# Altium schematic symbol library Roket_Library.SchLib: 61 symbols
Pins are listed as number, name and electrical type; pins without a type are passive.

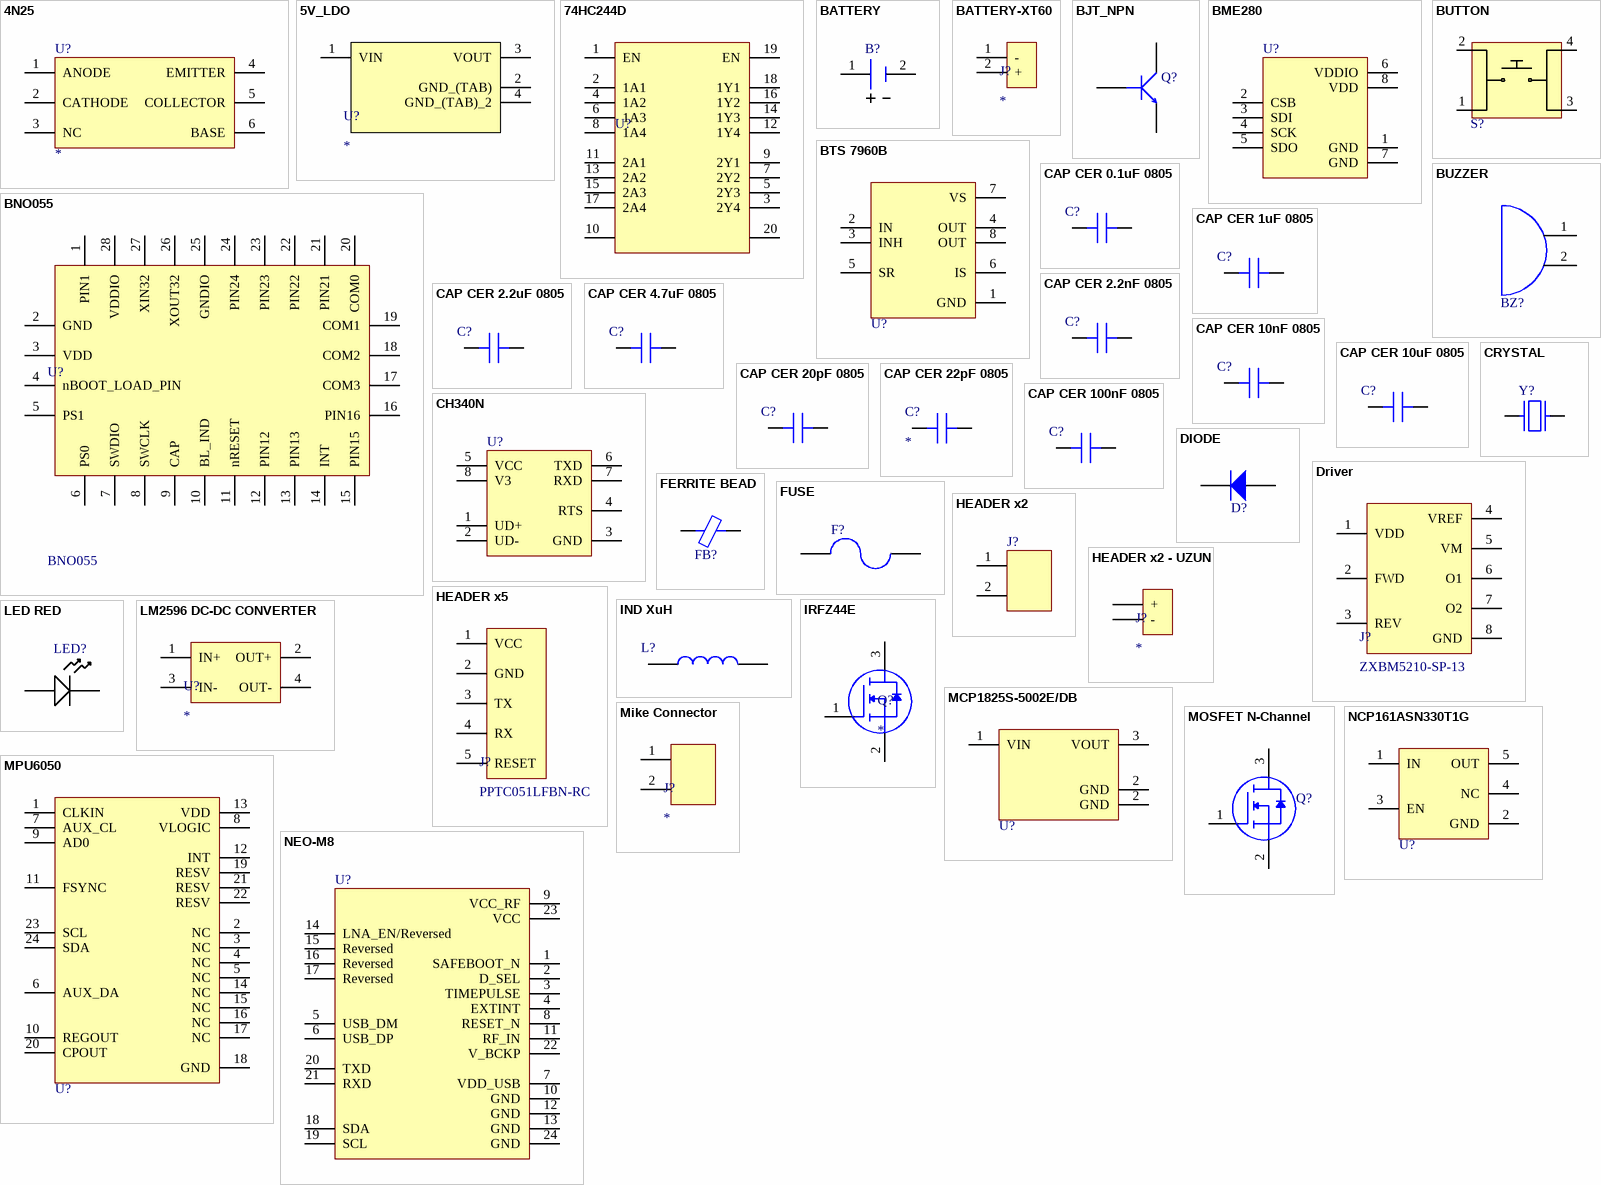
[diagram p0: symbols 4N25 to NEO-M8]

## 4N25
designator U?
OPTOISO 2.5KV TRANS W/BASE 6DIP; Manufacturer: Vishay Lite-On; Manufacturer Part Number: 4N25; Max Power Dissipation: 250mW; Number of Elements: 1; Rise Time: 2us; Power Dissipation: 150mW; Collector Emitter Voltage (VCEO): 30V; Forward Voltage: 1.2V; Input Type: DC; Collector Emitter Saturation Voltage: 500mV; Max Input Current: 80mA; Isolation Voltage: 5kV; Forward Current: 60mA; Reverse Breakdown Voltage: 5V; Input Current: 50mA; Max Collector Current: 100mA; Current Transfer Ratio: 50%; Supplier 1: Digi-Key; RoHS: Yes; Stock 1: 8920; Pricing 1: 1=0,46000, 10=0,28000, 100=0,16100, 1000=0,12600, 2000=0,11550, 5000=0,10500, 10000=0,09800, 25000=0,09450 (USD); Mount: Through Hole; Case/Package: DIP; Number of Pins: 6; Min Operating Temperature: -55°C; Max Operating Temperature: 100°C; Packaging: Rail/Tube; Package Quantity: 65; Series: -; Number of Channels: 1; Max Output Voltage: 30V; Fall Time: 2us; Number of Circuits: 1; Collector-emitter Voltage-Max: 500mV; Output Voltage: 30V; Isolation Voltage-Max: 5kV; Collector Emitter Breakdown Voltage: 30V; Output Current per Channel: 100mA; Radiation Hardening: No; Lead Free: Lead Free; Supplier Part Number 1: 160-1300-5-ND
footprint 4N25
pins: 1 ANODE, 2 CATHODE, 3 NC, 4 EMITTER, 5 COLLECTOR, 6 BASE

## 5V_LDO
designator U?
footprint 5V_LDO
pins: 1 VIN, 2 GND_(TAB), 3 VOUT, 4 GND_(TAB)_2

## 74HC244D
designator U?  (value not drawn)
IC BUFF/DVR TRI-ST DUAL 20SOIC; Manufacturer: Texas Instruments; Manufacturer Part Number: SN74HC244DWR; Polarity: Non-Inverting; Output Type: 3-STATE; Min Supply Voltage: 2V; Max Supply Voltage: 6V; Logic Function: Buffer,Inverting; Propagation Delay: 28ns; Number of Outputs: 8; Number of Elements: 2; Operating Supply Voltage: 5V; Low Level Output Current: 7.8mA; High Level Output Current: -7.8mA; Quiescent Current: 8uA; Turn-On Delay Time: 250ns; Number of Bits per Element: 4; Supplier 1: Digi-Key; RoHS: Yes; Category: Buffers, Drivers and Transceivers; Stock 1: 24373; Pricing 1: 1=0,60000, 10=0,52500, 25=0,49320, 100=0,40260, 250=0,37400, 500=0,31830, 1000=0,25464 (USD); Mount: Surface Mount; Case/Package: SOIC; Number of Pins: 20; Contact Plating: Gold; Min Operating Temperature: -40°C; Max Operating Temperature: 85°C; Packaging: Tape and Reel; Package Quantity: 2000; Number of Input Lines: 8; Number of Output Lines: 8; Number of Channels: 8; Number of Inputs: 8; Series: 74HC; Number of Bits: 8; Technology: CMOS; Number of Circuits: 8; Length: 12.8mm; Width: 7.52mm; Height: 2.35mm; Radiation Hardening: No; RoHS Compliant: Yes; Lead Free: Lead Free; Reach SVHC Compliant: Yes; ComponentLink1URL: https://datasheet.ciiva.com/34301/1004863-34301858.pdf?src-supplier=Jameco; ComponentLink1Description: https://datasheet.ciiva.com/34301/1004863-34301858.pdf?src-supplier=Jameco; ComponentLink2URL: https://datasheet.ciiva.com/15094/getdatasheetpartid-93776-15094669.pdf?src-supplier=Verical; ComponentLink2Description: https://datasheet.ciiva.com/15094/getdatasheetpartid-93776-15094669.pdf?src-supplier=Verical; ComponentLink3URL: https://datasheet.ciiva.com/41456/001016706-da-01-en-ic-b-dvr-sn74hc-sn74hc244dwr-soic-20-tid-41456856.pdf?src-supplier=Conrad; ComponentLink3Description: https://datasheet.ciiva.com/41456/001016706-da-01-en-ic-b-dvr-sn74hc-sn74hc244dwr-soic-20-tid-41456856.pdf?src-supplier=Conrad; ComponentLink4URL: https://datasheet.ciiva.com/1833/sn74hc244-1833833.pdf?src-supplier=Digi-Key; ComponentLink4Description: https://datasheet.ciiva.com/1833/sn74hc244-1833833.pdf?src-supplier=Digi-Key; ComponentLink5URL: https://datasheet.ciiva.com/1833/sn74hc244-1833832.pdf?src-supplier=Digi-Key; ComponentLink5Description: https://datasheet.ciiva.com/1833/sn74hc244-1833832.pdf?src-supplier=Digi-Key; ComponentLink6URL: https://datasheet.ciiva.com/1833/sn74hc244-1833834.pdf?src-supplier=Digi-Key; ComponentLink6Description: https://datasheet.ciiva.com/1833/sn74hc244-1833834.pdf?src-supplier=Digi-Key; ComponentLink7URL: https://datasheet.ciiva.com/7748/sn74hc244-7748043.pdf?src-supplier=Element14; ComponentLink7Description: https://datasheet.ciiva.com/7748/sn74hc244-7748043.pdf?src-supplier=Element14; ComponentLink8URL: https://datasheet.ciiva.com/14301/sn54hc244-14301006.pdf?src-supplier=Avnet; ComponentLink8Description: https://datasheet.ciiva.com/14301/sn54hc244-14301006.pdf?src-supplier=Avnet; Supplier Part Number 1: 296-1196-6-ND
footprint SOIC20
pins: 1 EN, 2 1A1, 3 2Y4, 4 1A2, 5 2Y3, 6 1A3, 7 2Y2, 8 1A4, 9 2Y1, 10, 11 2A1, 12 1Y4, 13 2A2, 14 1Y3, 15 2A3, 16 1Y2, 17 2A4, 18 1Y1, 19 EN, 20

## BATTERY
designator B?, comment MS920SE-FL27E  (value not drawn)
Lithium Battery Coin 3V 11mAh Rechargeable Tray; Manufacturer: Epson; Capacity: 0.011ah; Number of Cells: 1; Supplier 1: Digi-Key; Manufacturer Part Number: MS920SE-FL27E; RoHS: No; Stock 1: 17863; Pricing 1: 1=2,520000, 10=2,091000, 50=1,844000, 100=1,741000, 300=1,617400, 500=1,535000, 1000=1,452580, 2500=1,380470 (USD); Mount: Screw; Min Operating Temperature: -20°C; Max Operating Temperature: 60°C; Chemistry/Technology: Lithium; Voltage: 3V; ComponentLink1URL: http://speed.sii.co.jp/data/file_PRODUCT_MASTER_50112_TITLE_IMAGESP.pdf?src-supplier=Avnet; ComponentLink1Description: http://speed.sii.co.jp/data/file_PRODUCT_MASTER_50112_TITLE_IMAGESP.pdf?src-supplier=Avnet; Supplier Part Number 1: 728-1058-ND
footprint MS920SE_Battery
pins: 1, 2

## BATTERY-XT60
designator J?
footprint BATTERY-XT60
pins: 1 -, 2 +

## BJT_NPN
designator Q?, comment MMBT3904-7-F  (value not drawn)
NPN Ic=200mA Vceo=40V hfe=100~300 fT=310MHz P=300mW SOT-23; Manufacturer: Diodes Zetex; Max Power Dissipation: 300mW; Collector Emitter Voltage (VCEO): 40V; Max Collector Current: 200mA; Collector Base Voltage (VCBO): 60V; Power Dissipation: 350mW; Frequency: 300MHz; hFE Min: 100; Number of Elements: 1; Emitter Base Voltage (VEBO): 6V; Collector Emitter Saturation Voltage: 300mV; Element Configuration: Single; Supplier 1: Digi-Key; Manufacturer Part Number: MMBT3904-7-F; RoHS: Yes; Category: BJTs; Stock 1: 7729144; Pricing 1: 1=0,13000, 10=0,11700, 100=0,06370, 500=0,03918, 1000=0,02671 (USD); Mount: Surface Mount; Case/Package: SOT-23; Number of Pins: 3; Weight: 0.000282oz; Contact Plating: Tin,Matte; Min Operating Temperature: -55°C; Max Operating Temperature: 150°C; Polarity: NPN; Packaging: Tape and Reel; Package Quantity: 3000; Transition Frequency: 300MHz; Collector Emitter Breakdown Voltage: 40V; Max Breakdown Voltage: 40V; Continuous Collector Current: 200mA; Max Frequency: 300MHz; Gain Bandwidth Product: 300MHz; Voltage Rating (DC): 40V; Series: Automotive, AEC-Q101; Collector-emitter Voltage-Max: 300mV; Length: 3.05mm; Width: 1.4mm; Height: 1mm; Radiation Hardening: No; Reach SVHC Compliant: Yes; Lead Free: Lead Free; RoHS Compliant: Yes; ComponentLink1URL: https://datasheet.ciiva.com/11201/ds30036-11201778.pdf?src-supplier=Avnet; ComponentLink1Description: https://datasheet.ciiva.com/11201/ds30036-11201778.pdf?src-supplier=Avnet; ComponentLink2URL: https://datasheet.ciiva.com/15138/getdatasheetpartid-53265-15138780.pdf?src-supplier=Verical; ComponentLink2Description: https://datasheet.ciiva.com/15138/getdatasheetpartid-53265-15138780.pdf?src-supplier=Verical; ComponentLink3URL: https://datasheet.ciiva.com/22711/1915516-22711750.pdf?src-supplier=Element14; ComponentLink3Description: https://datasheet.ciiva.com/22711/1915516-22711750.pdf?src-supplier=Element14; ComponentLink4URL: https://datasheet.ciiva.com/11198/ds30036-11198999.pdf?src-supplier=Avnet; ComponentLink4Description: https://datasheet.ciiva.com/11198/ds30036-11198999.pdf?src-supplier=Avnet; ComponentLink5URL: https://datasheet.ciiva.com/6361/ds30036-6361256.pdf?src-supplier=Digi-Key; ComponentLink5Description: https://datasheet.ciiva.com/6361/ds30036-6361256.pdf?src-supplier=Digi-Key; ComponentLink6URL: https://datasheet.ciiva.com/6361/ds30036-6361254.pdf?src-supplier=Digi-Key; ComponentLink6Description: https://datasheet.ciiva.com/6361/ds30036-6361254.pdf?src-supplier=Digi-Key; Supplier Part Number 1: MMBT3904-FDICT-ND
footprint SOT_23F
pins: 1 B, 2 E, 3 C

## BME280
designator U?  (value not drawn)
Pressure, Temperature and Humidity Sensor Digital Output 1.8V 8-Pin LGA T/R; Manufacturer: Bosch Tools; Supplier 1: Digi-Key; Manufacturer Part Number: BME280; RoHS: No; Category: Pressure Sensors; Stock 1: 180730; Pricing 1: 1=7,64000, 5=6,74200, 10=5,95500, 25=4,83160, 50=4,26960, 100=4,15730, 500=3,48316, 1000=3,25844 (USD); Supplier Part Number 1: 828-1063-1-ND
footprint BME280
pins: 1 GND, 2 CSB, 3 SDI, 4 SCK, 5 SDO, 6 VDDIO, 7 GND, 8 VDD

## BNO055
designator U?
BNO055 Series 1.7 to 3.6 V Intelligent 9-Axis Absolute Orientation Sensor-LGA-28; Manufacturer: Bosch; Sensor Type: Accelerometer,Gyroscope,Magnetometer,3 Axis; Output Type: I2C; Supplier 1: Future Electronics; Manufacturer Part Number: BNO055; RoHS: No; Category: Inertial Measurement Units (IMUs); Pricing 1: 4000=7,70000 (USD); Mount: Surface Mount; Case/Package: LGA; Min Operating Temperature: -40°C; Max Operating Temperature: 85°C; Packaging: Tape and Reel; Lead Free: Lead Free; ComponentLink1URL: https://ae-bst.resource.bosch.com/media/_tech/media/application_notes/BST-BNO055-HS000.pdf ?src-supplier=Digi-Key; ComponentLink1Description: https://ae-bst.resource.bosch.com/media/_tech/media/application_notes/BST-BNO055-HS000.pdf ?src-supplier=Digi-Key; Supplier Part Number 1: 8159159
footprint BNO055
pins: 1 PIN1, 2 GND, 3 VDD, 4 nBOOT_LOAD_PIN, 5 PS1, 6 PS0, 7 SWDIO, 8 SWCLK, 9 CAP, 10 BL_IND, 11 nRESET, 12 PIN12, 13 PIN13, 14 INT, 15 PIN15, 16 PIN16, 17 COM3, 18 COM2, 19 COM1, 20 COM0, 21 PIN21, 22 PIN22, 23 PIN23, 24 PIN24, 25 GNDIO, 26 XOUT32, 27 XIN32, 28 VDDIO

## BTS 7960B
designator U?  (value not drawn)
CY29FCT520T 8-BIT Multi-level Pi; Manufacturer: Texas Instruments; Manufacturer Part Number: CY29FCT520BTSOC; Min Supply Voltage: 4.75V; Max Supply Voltage: 5.25V; Number of Bits: 8; Operating Supply Voltage: 5V; Propagation Delay: 7.5ns; Number of Elements: 1; Low Level Output Current: 64mA; High Level Output Current: -32mA; Clock Edge Trigger Type: Positive Edge; Polarity: Non-Inverting; Max Input Current: 5uA; Output Type: 3-STATE; Supplier 1: Digi-Key; RoHS: Yes; Category: Shift Registers; Pricing 1: 150=3,81980 (USD); Mount: Surface Mount; Case/Package: SOIC; Number of Pins: 24; Weight: 0.022025oz; Contact Plating: Gold; Min Operating Temperature: -40°C; Max Operating Temperature: 85°C; Package Quantity: 25; Packaging: Rail/Tube; Number of Channels: 8; Series: 29FCT; Termination: SMD/SMT; Technology: CMOS; Number of Outputs: 8; Number of Circuits: 1; Turn-On Delay Time: 7.5ns; Number of Inputs: 8; Number of Input Lines: 8; Number of Output Lines: 8; Number of Bits per Element: 8; Radiation Hardening: No; Lead Free: Lead Free; Reach SVHC Compliant: Yes; RoHS Compliant: Yes; ComponentLink1URL: https://datasheet.ciiva.com/15086/getdatasheetpartid-393432-15086926.pdf?src-supplier=Verical; ComponentLink1Description: https://datasheet.ciiva.com/15086/getdatasheetpartid-393432-15086926.pdf?src-supplier=Verical; ComponentLink2URL: https://datasheet.ciiva.com/1509/1847425-1509393.pdf?src-supplier=Element14; ComponentLink2Description: https://datasheet.ciiva.com/1509/1847425-1509393.pdf?src-supplier=Element14; ComponentLink3URL: https://datasheet.ciiva.com/14274/cy29fct520t-14274654.pdf?src-supplier=Avnet; ComponentLink3Description: https://datasheet.ciiva.com/14274/cy29fct520t-14274654.pdf?src-supplier=Avnet; ComponentLink4URL: https://datasheet.ciiva.com/6619/cy29fct520t-6619311.pdf?src-supplier=Digi-Key; ComponentLink4Description: https://datasheet.ciiva.com/6619/cy29fct520t-6619311.pdf?src-supplier=Digi-Key; Supplier Part Number 1: 296-33177-5-ND
footprint P-TO-263-7
pins: 1 GND, 2 IN, 3 INH, 4 OUT, 5 SR, 6 IS, 7 VS, 8 OUT

## BUTTON
designator S?, comment PTS815 SJG 250 SMTR LFS  (value not drawn)
Switch Tactile N.O. SPST Button J-Bend 0.05A 12VDC 3.92N SMD T/R; Manufacturer: ITT C&K; Supplier 1: Digi-Key; Manufacturer Part Number: PTS815SJG250SMTRLFS; RoHS: Yes; Category: Tactile Switches; Stock 1: 47215; Pricing 1: 1=0,22000, 10=0,21400, 25=0,20280, 100=0,18360, 250=0,16736, 500=0,15558, 1000=0,13271 (USD); Supplier Part Number 1: CKN12217-1-ND
footprint BUTTON
pins: 1, 2, 3, 4

## BUZZER
designator BZ?, comment CMI-9605IC-0580T  (value not drawn)
Audio Buzzer Magnetic 3VDC 7VDC 30mA 5VDC 85dB 2600Hz to 2800Hz Through Hole Pin Box; Manufacturer: CUI Devices; Supplier 1: Digi-Key; Manufacturer Part Number: CMI-9605IC-0580T; RoHS: No; Category: Audio Products; Stock 1: 6842; Pricing 1: 1=1,43000, 10=1,19000, 25=1,10160, 50=1,03700, 100=0,97450, 500=0,83848, 1000=0,78382, 5000=0,76810 (USD); Supplier Part Number 1: 2223-CMI-9605IC-0580T-ND
footprint BUZZER
pins: 1, 2

## CAP CER 0.1uF 0805
designator C?  (value not drawn)
footprint CAP_0805
pins: 1, 2

## CAP CER 1uF 0805
designator C?  (value not drawn)
footprint CAP_0805
pins: 1, 2

## CAP CER 2.2nF 0805
designator C?  (value not drawn)
footprint CAP_0805
pins: 1, 2

## CAP CER 2.2uF 0805
designator C?  (value not drawn)
footprint CAP_0805
pins: 1, 2

## CAP CER 4.7uF 0805
designator C?  (value not drawn)
footprint CAP_0805
pins: 1, 2

## CAP CER 10nF 0805
designator C?  (value not drawn)
footprint CAP_0805
pins: 1, 2

## CAP CER 10uF 0805
designator C?  (value not drawn)
footprint CAP_0805
pins: 1, 2

## CAP CER 20pF 0805
designator C?  (value not drawn)
footprint CAP_0805
pins: 1, 2

## CAP CER 22pF 0805
designator C?
footprint CAP_0805
pins: 1, 2

## CAP CER 100nF 0805
designator C?  (value not drawn)
footprint CAP_0805
pins: 1, 2

## CH340N
designator U?  (value not drawn)
USB TO UART TTL CONVERTER - SOP 8 PACKAGE
footprint SOP-8
pins: 1 UD+, 2 UD-, 3 GND, 4 RTS, 5 VCC, 6 TXD, 7 RXD, 8 V3

## CRYSTAL
designator Y?, comment CRYSTAL 32.7680KHZ 12.5PF SMD  (value not drawn)
Crystal 0.032768MHz ±20ppm (Tol) 12.5pF Flexural 90000Ohm 2-Pin CSMD T/R; Manufacturer: Abracon; Manufacturer Part Number: ABS05-32.768KHZ-T; Frequency: 32.768kHz; ESR (Equivalent Series Resistance): 90kR; Operating Frequency: 32.768 kHz; Supplier 1: Digi-Key; RoHS: Yes; Category: Crystals; Stock 1: 376220; Pricing 1: 1=0,66000, 10=0,58100, 50=0,54340, 100=0,48020, 500=0,45494, 1000=0,37911 (USD); Mount: Surface Mount; Case/Package: CSMD; Number of Pins: 2; Min Operating Temperature: -40°C; Max Operating Temperature: 85°C; Packaging: Tape and Reel; Frequency Tolerance: 20ppm; Load Capacitance: 12.5pF; Package Quantity: 3000; Tolerance: 20ppm; Termination: SMD/SMT; Series Resistance: 90kR; Series: ABS05; Length: 1.6mm; Width: 1mm; Height: 0.5mm; Depth: 1mm; Radiation Hardening: No; Reach SVHC Compliant: Yes; Lead Free: Lead Free; RoHS Compliant: Yes; ComponentLink1URL: https://datasheet.ciiva.com/23810/abs05-23810480.pdf?src-supplier=Newark; ComponentLink1Description: https://datasheet.ciiva.com/23810/abs05-23810480.pdf?src-supplier=Newark; ComponentLink2URL: https://datasheet.ciiva.com/6728/abs05-6728949.pdf?src-supplier=Digi-Key; ComponentLink2Description: https://datasheet.ciiva.com/6728/abs05-6728949.pdf?src-supplier=Digi-Key; ComponentLink3URL: https://datasheet.ciiva.com/6728/abs05-6728950.pdf?src-supplier=Digi-Key; ComponentLink3Description: https://datasheet.ciiva.com/6728/abs05-6728950.pdf?src-supplier=Digi-Key; ComponentLink4URL: https://datasheet.ciiva.com/16411/abs05-16411149.pdf?src-supplier=Future+Electronics; ComponentLink4Description: https://datasheet.ciiva.com/16411/abs05-16411149.pdf?src-supplier=Future+Electronics; Supplier Part Number 1: 535-11899-1-ND
footprint CRYSTAL_ABS05
pins: 1, 2

## DIODE
designator D?, comment DIODE GEN PURP 75V 150MA SOD323F  (value not drawn)
VR=75V IF=150mA Trr=4ns P=200mW; Manufacturer: ON Semiconductor / Fairchild; Manufacturer Part Number: 1N4148WS; Element Configuration: Single; Reverse Recovery Time: 4ns; Forward Voltage: 1V; Max Reverse Current: 5uA; Power Dissipation: 200mW; Max Forward Surge Current (Ifsm): 2A; Supplier 1: Digi-Key; RoHS: Yes; Category: Rectifier Diodes; Stock 1: 973654; Pricing 1: 1=0,21000, 10=0,19200, 100=0,10460, 500=0,06436, 1000=0,04388 (USD); Mount: Surface Mount; Number of Pins: 2; Contact Plating: Tin,Matte; Weight: 0.0276g; Min Operating Temperature: -55°C; Max Operating Temperature: 150°C; Packaging: Tape and Reel; Forward Current: 150mA; Max Repetitive Reverse Voltage (Vrrm): 75V; Package Quantity: 1; Average Rectified Current: 150mA; Max Reverse Voltage (DC): 75V; Recovery Time: 4ns; Series: -; Reverse Voltage: 75V; Length: 1.8mm; Width: 1.35mm; Height: 1mm; Radiation Hardening: No; RoHS Compliant: Yes; Lead Free: Lead Free; Reach SVHC Compliant: Yes; ComponentLink1URL: https://datasheet.ciiva.com/30479/0900766b810e1cd3-30479206.pdf?src-supplier=Rs; ComponentLink1Description: https://datasheet.ciiva.com/30479/0900766b810e1cd3-30479206.pdf?src-supplier=Rs; ComponentLink2URL: https://datasheet.ciiva.com/15208/getdatasheetpartid-127819-15208358.pdf?src-supplier=Verical; ComponentLink2Description: https://datasheet.ciiva.com/15208/getdatasheetpartid-127819-15208358.pdf?src-supplier=Verical; ComponentLink3URL: https://datasheet.ciiva.com/8300/1n914bws-8300360.pdf?src-supplier=Avnet; ComponentLink3Description: https://datasheet.ciiva.com/8300/1n914bws-8300360.pdf?src-supplier=Avnet; ComponentLink4URL: https://datasheet.ciiva.com/910/1n4148ws-910381.pdf?src-supplier=Digi-Key; ComponentLink4Description: https://datasheet.ciiva.com/910/1n4148ws-910381.pdf?src-supplier=Digi-Key; ComponentLink5URL: https://datasheet.ciiva.com/910/1n4148ws-910382.pdf?src-supplier=Digi-Key; ComponentLink5Description: https://datasheet.ciiva.com/910/1n4148ws-910382.pdf?src-supplier=Digi-Key; ComponentLink6URL: https://datasheet.ciiva.com/910/1n4148ws-910380.pdf?src-supplier=Digi-Key; ComponentLink6Description: https://datasheet.ciiva.com/910/1n4148ws-910380.pdf?src-supplier=Digi-Key; Supplier Part Number 1: 1N4148WSFSDKR-ND
footprint SOD323F
pins: 1 CATHODE, 2 ANODE

## Driver
designator J?, comment ZXBM5210-SP-13
ZXBM5210 Series 18 V 1.5 A Reversible DC Motor Drive with Speed Control-SOIC-8EP; Manufacturer: Diodes; Interface: PWM; Logic Function: AND GATE; Operating Supply Voltage: 18V; Supplier 1: Digi-Key; Manufacturer Part Number: ZXBM5210-SP-13; RoHS: Yes; Category: Motor Drivers; Stock 1: 172511; Pricing 1: 1=1,21000, 10=1,08000, 25=1,02560, 100=0,84230, 250=0,78740, 500=0,69584, 1000=0,54934 (USD); Mount: Surface Mount; Min Operating Temperature: -40°C; Max Operating Temperature: 125°C; Package Quantity: 2500; Packaging: Cut Tape; Lead Free: Lead Free; ComponentLink1URL: https://datasheet.ciiva.com/29599/zxbm5210-29599456.pdf?src-supplier=Digi-Key; ComponentLink1Description: https://datasheet.ciiva.com/29599/zxbm5210-29599456.pdf?src-supplier=Digi-Key; ComponentLink2URL: https://datasheet.ciiva.com/29599/zxbm5210-29599455.pdf?src-supplier=Digi-Key; ComponentLink2Description: https://datasheet.ciiva.com/29599/zxbm5210-29599455.pdf?src-supplier=Digi-Key; ComponentLink3URL: https://datasheet.ciiva.com/30043/zxbm5210-30043882.pdf?src-supplier=Avnet; ComponentLink3Description: https://datasheet.ciiva.com/30043/zxbm5210-30043882.pdf?src-supplier=Avnet; Supplier Part Number 1: ZXBM5210-SP-13DICT-ND
footprint SO-8EP
pins: 1 VDD, 2 FWD, 3 REV, 4 VREF, 5 VM, 6 O1, 7 O2, 8 GND

## FERRITE BEAD
designator FB?, comment MPZ2012S601AT000  (value not drawn)
0805 600Ω ±25% DCR=0.1Ω 2A; Manufacturer: TDK; Impedance: 600R; DC Resistance (DCR): 100mR; Number of Lines: 1; Supplier 1: Digi-Key; Manufacturer Part Number: MPZ2012S601AT000; RoHS: Yes; Category: Ferrite Beads and Chips; Stock 1: 1942; Pricing 1: 1=0,11000, 10=0,09200, 25=0,08320, 50=0,06100, 100=0,05270, 250=0,04160, 500=0,03512, 1000=0,02957 (USD); Mount: Surface Mount; Case/Package: 0805; Case Code (Metric): 2012; Case Code (Imperial): 0805; Min Operating Temperature: -55°C; Max Operating Temperature: 125°C; Packaging: Tape and Reel; Package Quantity: 1; Current Rating: 2A; Max DC Current: 2A; Series: MPZ; Max Current Rating: 2A; Length: 0.079inch; Width: 0.049inch; Height: 0.041inch; Reach SVHC Compliant: Yes; Lead Free: Lead Free; RoHS Compliant: Yes; ComponentLink1URL: https://datasheet.ciiva.com/46634/beads-commercial-power-mpz-en-46634335.pdf?src-supplier=Digi-Key; ComponentLink1Description: https://datasheet.ciiva.com/46634/beads-commercial-power-mpz-en-46634335.pdf?src-supplier=Digi-Key; ComponentLink2URL: https://datasheet.ciiva.com/46634/beads-commercial-power-mpz-en-46634377.pdf?src-supplier=Digi-Key; ComponentLink2Description: https://datasheet.ciiva.com/46634/beads-commercial-power-mpz-en-46634377.pdf?src-supplier=Digi-Key; ComponentLink3URL: https://datasheet.ciiva.com/46634/beads-commercial-power-mpz-en-46634606.pdf?src-supplier=Digi-Key; ComponentLink3Description: https://datasheet.ciiva.com/46634/beads-commercial-power-mpz-en-46634606.pdf?src-supplier=Digi-Key; Supplier Part Number 1: 445-MPZ2012S601AT000CT-ND
footprint FERRITE BEAD_0805
pins: 1, 2

## FUSE
designator F?, comment FUSE 3413.0216.22  (value not drawn)
Fuse Chip Fast Acting 1A 32V SMD Solder Pad 1206 Glass T/R VDE/cULus; Manufacturer: Schurter; Body Material: Glass,Epoxy; Max Voltage Rating (DC): 63V; DC Cold Resistance: 94.2mR; Fuse Type: Board Mount (Cartridge Style Excluded); Approvals: VDE,cURus; Supplier 1: Digi-Key; Manufacturer Part Number: 3413.0216.22; RoHS: Yes; Category: Fuses; Stock 1: 6832; Pricing 1: 1=0,67000, 50=0,52400, 100=0,39700, 500=0,32624 (USD); Mount: Surface Mount,PCB; Case/Package: 1206; Number of Pins: 2; Weight: 0.000212oz; Case Code (Metric): 3216; Case Code (Imperial): 1206; Contact Plating: Gold; Housing Material: Glass; Terminal Material: Tin; Min Operating Temperature: -55°C; Max Operating Temperature: 90°C; Current Rating: 1A; Package Quantity: 1000; Voltage Rating (AC): 32V; Voltage Rating (DC): 63V; Packaging: Tape and Reel; Max Voltage Rating (AC): 32V; Voltage Rating: 32V; Termination: SMD/SMT; Working Voltage: 32V; Series: USI 1206; Length: 3.2mm; Width: 1.6mm; Height: 0.6mm; Depth: 1.6mm; Radiation Hardening: No; Lead Free: Lead Free; RoHS Compliant: Yes; ComponentLink1URL: https://datasheet.ciiva.com/301/typ-usi-1206-301440.pdf?src-supplier=Digi-Key; ComponentLink1Description: https://datasheet.ciiva.com/301/typ-usi-1206-301440.pdf?src-supplier=Digi-Key; ComponentLink2URL: https://datasheet.ciiva.com/14541/70160006-14541114.pdf?src-supplier=Allied+Electronics; ComponentLink2Description: https://datasheet.ciiva.com/14541/70160006-14541114.pdf?src-supplier=Allied+Electronics; ComponentLink3URL: https://datasheet.ciiva.com/301/typ-usi-1206-301439.pdf?src-supplier=Digi-Key; ComponentLink3Description: https://datasheet.ciiva.com/301/typ-usi-1206-301439.pdf?src-supplier=Digi-Key; ComponentLink4URL: https://datasheet.ciiva.com/301/typ-usi-1206-301441.pdf?src-supplier=Digi-Key; ComponentLink4Description: https://datasheet.ciiva.com/301/typ-usi-1206-301441.pdf?src-supplier=Digi-Key; ComponentLink5URL: https://datasheet.ciiva.com/8264/typ-usi-1206-8264583.pdf?src-supplier=Avnet; ComponentLink5Description: https://datasheet.ciiva.com/8264/typ-usi-1206-8264583.pdf?src-supplier=Avnet; ComponentLink6URL: https://datasheet.ciiva.com/14102/qousi1206-data-e-14102903.pdf?src-supplier=Distrelec; ComponentLink6Description: https://datasheet.ciiva.com/14102/qousi1206-data-e-14102903.pdf?src-supplier=Distrelec; ComponentLink7URL: https://datasheet.ciiva.com/16316/typ-usi-1206-16316588.pdf?src-supplier=Future+Electronics; ComponentLink7Description: https://datasheet.ciiva.com/16316/typ-usi-1206-16316588.pdf?src-supplier=Future+Electronics; Supplier Part Number 1: 486-1144-1-ND
footprint FUSE_1206
pins: 1, 2

## HEADER x2
designator J?  (value not drawn)
Conn Screw Type Terminal Block 2 POS 3.5mm Solder ST Thru-Hole 10A; Manufacturer: On-Shore Technology; Manufacturer Part Number: OSTTE020104; Plating: Steel; Number of Levels: 1; Number of Positions Per Level: 2; Voltage: 125V; Pitch: 0.138inch; Wire Gauge (Max): 26AWG; Wire Gauge (Min): 16AWG; Supplier 1: Digi-Key; RoHS: Yes; Category: Terminal Blocks; Stock 1: 73362; Pricing 1: 1=0,74000, 10=0,40200, 25=0,30040, 50=0,26780, 100=0,26260, 250=0,23108, 500=0,21008, 1000=0,18907, 5000=0,14180 (USD); Mount: Through Hole; Number of Pins: 2; Contact Plating: Tin; Color: Black; Housing Material: Thermoplastic; Min Operating Temperature: -30°C; Max Operating Temperature: 105°C; Current: 10A; Termination: Screw; Packaging: Bulk; ComponentLink1URL: http://www.on-shore.com/wp-content/uploads/2015/09/osttexx0164.pdf?src-supplier=Digi-Key; ComponentLink1Description: http://www.on-shore.com/wp-content/uploads/2015/09/osttexx0164.pdf?src-supplier=Digi-Key; ComponentLink2URL: http://www.on-shore.com/wp-content/uploads/2015/09/osttexx0164.pdf?src-supplier=Verical; ComponentLink2Description: http://www.on-shore.com/wp-content/uploads/2015/09/osttexx0164.pdf?src-supplier=Verical; ComponentLink3URL: http://www.on-shore.com/wp-content/uploads/2015/09/osttexx0164.pdf?src-supplier=Arrow+Electronics; ComponentLink3Description: http://www.on-shore.com/wp-content/uploads/2015/09/osttexx0164.pdf?src-supplier=Arrow+Electronics; Supplier Part Number 1: ED2740-ND
footprint HEADER x2
pins: 1, 2

## HEADER x2 - UZUN
designator J?
footprint HEADER x2 - UZUN
pins: 1 +, 2 -

## HEADER x5
designator J?, comment PPTC051LFBN-RC
Female, 5C, Straight, .100"CC; 3.20mm Tail, No Mt. 100u" Tin; PBT, Phos Bronze, 105 C; Manufacturer: Sullins; Number of Positions: 5; Connector Type: Header; Pitch: 0.1inch; Supplier 1: Digi-Key; Manufacturer Part Number: PPTC051LFBN-RC; RoHS: Yes; Category: Connectors; Stock 1: 32807; Pricing 1: 1=0,47000, 10=0,41200, 80=0,33950, 440=0,29520, 1000=0,24354, 5000=0,21402, 10000=0,21320 (USD); Mount: Through Hole; Color: Black; Contact Plating: Tin; Contact Material: Bronze; Housing Material: Plastic; Package Quantity: 1000; Number of Rows: 1; Packaging: Bulk; Termination: Solder; Contact Type: Female Socket; Length: 13.2mm; Width: 2.5mm; Height: 8.5mm; Lead Free: Lead Free; RoHS Compliant: Yes; ComponentLink1URL: https://media.digikey.com/pdf/Data%20Sheets/Sullins%20PDFs/Female_Headers.100_DS.pdf?src-supplier=Digi-Key; ComponentLink1Description: https://media.digikey.com/pdf/Data%20Sheets/Sullins%20PDFs/Female_Headers.100_DS.pdf?src-supplier=Digi-Key; ComponentLink2URL: http://www.sullinscorp.com/catalogs/78_Page80-81_HEADER_.100_2.54mm_FEMALE.pdf?src-supplier=Future+Electronics; ComponentLink2Description: http://www.sullinscorp.com/catalogs/78_Page80-81_HEADER_.100_2.54mm_FEMALE.pdf?src-supplier=Future+Electronics; Supplier Part Number 1: S6103-ND
footprint PPTC051LFBN-RC
pins: 1 VCC, 2 GND, 3 TX, 4 RX, 5 RESET

## IND XuH
designator L?  (value not drawn)
pins: 1, 2

## IRFZ44E
designator Q?
footprint ırfz44e
pins: 1 G, 2 D, 3 S

## LED RED
designator LED?, comment CMD17-21VRD/TR8  (value not drawn)
LED Uni-Color Red 640nm 2-Pin SMT T/R; Manufacturer: VCC CHML; Power Rating: 100mW; Luminous Intensity: 6mcd; Viewing Angle: 140°; Lens Style: Diffused,Tinted,Rectangular,Colored; Forward Current: 20mA; Forward Voltage: 2V; Reverse Voltage (DC): 5V; Number of LEDs: 1; Supplier 1: Digi-Key; Manufacturer Part Number: CMD17-21VRD/TR8; RoHS: Yes; Category: LEDs; Stock 1: 357228; Pricing 1: 1=0,73000, 10=0,47800, 100=0,31310, 1000=0,24720 (USD); Mount: Surface Mount; Case/Package: 0805; Number of Pins: 2; Color: Red; Case Code (Metric): 2012; Case Code (Imperial): 0805; Lens Color: Red; Min Operating Temperature: -40°C; Max Operating Temperature: 85°C; Packaging: Tape and Reel; Package Quantity: 1; Illumination Color: Red; Test Current: 20mA; Wavelength: 640nm; Reverse Voltage: 5V; Length: 2mm; Width: 1.25mm; Height: 1.1mm; RoHS Compliant: Yes; Lead Free: Lead Free; ComponentLink1URL: http://www.mouser.com/ds/2/423/CMD1721ver1-1064576.pdf?src-supplier=Mouser; ComponentLink1Description: http://www.mouser.com/ds/2/423/CMD1721ver1-1064576.pdf?src-supplier=Mouser; ComponentLink2URL: https://www.alliedelec.com/m/d/ea8f758becbd32522d2612194452bcae.pdf?src-supplier=Allied+Electronics; ComponentLink2Description: https://www.alliedelec.com/m/d/ea8f758becbd32522d2612194452bcae.pdf?src-supplier=Allied+Electronics; ComponentLink3URL: http://www.onlinecomponents.com/productFiles/mf-CM/2cmd17-21seriessmtleds0805packagesize.pdf?src-supplier=Onlinecomponents.com; ComponentLink3Description: http://www.onlinecomponents.com/productFiles/mf-CM/2cmd17-21seriessmtleds0805packagesize.pdf?src-supplier=Onlinecomponents.com; ComponentLink4URL: https://vcclite.com/wp-content/uploads/wpallimport/files/files/CMD1721Seriesver3.pdf?src-supplier=Digi-Key; ComponentLink4Description: https://vcclite.com/wp-content/uploads/wpallimport/files/files/CMD1721Seriesver3.pdf?src-supplier=Digi-Key; Supplier Part Number 1: L62501CT-ND
footprint LED RED_0805
pins: 1, 2

## LM2596 DC-DC CONVERTER
designator U?
footprint LM2596 DC-DC CONVERTER
pins: 1 IN+, 2 OUT+, 3 IN-, 4 OUT-

## MCP1825S-5002E/DB
designator U?  (value not drawn)
IC; Linear Regulator; Max. Input; 6V; Output; 5V; 500MA; Accuracy; 0.5%; SOT223-3; Manufacturer: Microchip; Dropout Voltage: 210mV; Min Input Voltage: 2.1V; Number of Outputs: 1; Input Bias Current: 120uA; Quiescent Current: 220uA; Polarity: Positive; Output Type: Fixed; Supplier 1: Digi-Key; Manufacturer Part Number: MCP1825S-5002E/DB; RoHS: Yes; Category: Voltage Regulators - Linear; Stock 1: 2498; Pricing 1: 1=0,69000, 25=0,58320, 100=0,53000 (USD); Mount: Surface Mount; Case/Package: SOT-223; Number of Pins: 3; Min Operating Temperature: -40°C; Max Operating Temperature: 125°C; Package Quantity: 78; Max Input Voltage: 6V; Output Current: 500mA; Output Voltage: 5V; Packaging: Rail/Tube; Max Output Current: 500mA; Min Output Voltage: 5V; Accuracy: 0.5%; Nominal Output Voltage: 5V; Output Voltage Accuracy: 0.5%; Length: 6.5mm; Width: 3.5mm; Height: 1.6mm; Radiation Hardening: No; Reach SVHC Compliant: Yes; Lead Free: Lead Free; RoHS Compliant: Yes; ComponentLink1URL: https://datasheet.ciiva.com/41458/001085970-da-01-en-ic-reg-l-mcp1825s-5002e-db-sot-223-3-mcp-41458813.pdf?src-supplier=Conrad; ComponentLink1Description: https://datasheet.ciiva.com/41458/001085970-da-01-en-ic-reg-l-mcp1825s-5002e-db-sot-223-3-mcp-41458813.pdf?src-supplier=Conrad; ComponentLink2URL: https://datasheet.ciiva.com/8041/514217-8041503.pdf?src-supplier=Element14; ComponentLink2Description: https://datasheet.ciiva.com/8041/514217-8041503.pdf?src-supplier=Element14; ComponentLink3URL: https://datasheet.ciiva.com/8239/22056b-8239274.pdf?src-supplier=Avnet; ComponentLink3Description: https://datasheet.ciiva.com/8239/22056b-8239274.pdf?src-supplier=Avnet; ComponentLink4URL: https://datasheet.ciiva.com/16298/filehandler-aspxddocname-en531698-16298391.pdf?src-supplier=Future+Electronics; ComponentLink4Description: https://datasheet.ciiva.com/16298/filehandler-aspxddocname-en531698-16298391.pdf?src-supplier=Future+Electronics; ComponentLink5URL: https://datasheet.ciiva.com/15200/getdatasheetpartid-567689-15200326.pdf?src-supplier=Verical; ComponentLink5Description: https://datasheet.ciiva.com/15200/getdatasheetpartid-567689-15200326.pdf?src-supplier=Verical; ComponentLink6URL: https://datasheet.ciiva.com/2051/22056b-2051733.pdf?src-supplier=Digi-Key; ComponentLink6Description: https://datasheet.ciiva.com/2051/22056b-2051733.pdf?src-supplier=Digi-Key; Supplier Part Number 1: MCP1825S-5002E/DB-ND
footprint SOT-223-3
pins: 1 VIN, 2 GND, 2 GND, 3 VOUT

## Mike Connector
designator J?
footprint MIKE CONNECTOR
pins: 1, 2

## MOSFET N-Channel
designator Q?, comment NTR5103NT1G  (value not drawn)
MOSFET N-CH 60V 0.26A SOT23; Manufacturer: ON Semiconductor; Continuous Drain Current (ID): 310mA; Rds On Max: 2.5R; Input Capacitance: 40pF; Max Power Dissipation: 300mW; Number of Channels: 1; Drain to Source Resistance: 1R; Gate to Source Voltage (Vgs): 30V; Fall Time: 3.6ns; Rise Time: 1.2ns; Turn-Off Delay Time: 4.8ns; Turn-On Delay Time: 1.7ns; FET Type: 1 N-Channel; Supplier 1: Digi-Key; Manufacturer Part Number: NTR5103NT1G; RoHS: Yes; Category: MOSFETs; Stock 1: 55356; Pricing 1: 1=0,25000, 10=0,20100, 100=0,10660, 500=0,07012, 1000=0,04768 (USD); Mount: Surface Mount; Case/Package: SOT-23-3; Number of Pins: 3; Contact Plating: Tin; Min Operating Temperature: -55°C; Max Operating Temperature: 150°C; Packaging: Tape and Reel; Drain to Source Voltage (Vdss): 60V; Drain to Source Breakdown Voltage: 60V; Package Quantity: 3000; Lead Free: Lead Free; RoHS Compliant: Yes; ComponentLink1URL: http://www.farnell.com/datasheets/2237046.pdf?src-supplier=Farnell; ComponentLink1Description: http://www.farnell.com/datasheets/2237046.pdf?src-supplier=Farnell; ComponentLink2URL: http://www.mouser.com/ds/2/308/NTR5103N-D-600006.pdf?src-supplier=Mouser; ComponentLink2Description: http://www.mouser.com/ds/2/308/NTR5103N-D-600006.pdf?src-supplier=Mouser; ComponentLink3URL: http://www.farnell.com/datasheets/2237046.pdf?src-supplier=Newark; ComponentLink3Description: http://www.farnell.com/datasheets/2237046.pdf?src-supplier=Newark; ComponentLink4URL: http://www.farnell.com/datasheets/2237046.pdf?src-supplier=Element14; ComponentLink4Description: http://www.farnell.com/datasheets/2237046.pdf?src-supplier=Element14; ComponentLink5URL: http://www.onsemi.com/pub/Collateral/NTR5103N-D.PDF?src-supplier=Avnet; ComponentLink5Description: http://www.onsemi.com/pub/Collateral/NTR5103N-D.PDF?src-supplier=Avnet; ComponentLink6URL: http://www.onsemi.com/pub/Collateral/NTR5103N-D.PDF?src-supplier=Digi-Key; ComponentLink6Description: http://www.onsemi.com/pub/Collateral/NTR5103N-D.PDF?src-supplier=Digi-Key; Supplier Part Number 1: NTR5103NT1GOSCT-ND
footprint SOT-23-3
pins: 1 G, 2 S, 3 D

## MPU6050
designator U?, comment MPU-6050  (value not drawn)
IMU ACCEL/GYRO 3-AXIS I2C 24QFN; Manufacturer: TDK InvenSense; Sensor Type: Accelerometer,Gyroscope,6 Axis; Supplier 1: Digi-Key; Manufacturer Part Number: MPU-6050; RoHS: Yes; Category: Inertial Measurement Units (IMUs); Pricing 1: 1=9,11000, 5=7,99200, 10=7,19300, 25=6,39400, 50=5,91440, 100=5,11520, 500=4,79550, 1000=4,47580 (USD); Mount: Surface Mount; Case/Package: QFN; Min Operating Temperature: -40°C; Max Operating Temperature: 85°C; Packaging: Cut Tape; Output Type: I2C; Series: -; RoHS Compliant: Yes; ComponentLink1URL: https://datasheet.ciiva.com/1513/1788002-1513632.pdf?src-supplier=Element14; ComponentLink1Description: https://datasheet.ciiva.com/1513/1788002-1513632.pdf?src-supplier=Element14; ComponentLink2URL: https://datasheet.ciiva.com/22731/1788002-22731434.pdf?src-supplier=Element14; ComponentLink2Description: https://datasheet.ciiva.com/22731/1788002-22731434.pdf?src-supplier=Element14; Supplier Part Number 1: 1428-1007-1-ND
footprint QFN-24-MPU6050
pins: 1 CLKIN, 2 NC, 3 NC, 4 NC, 5 NC, 6 AUX_DA, 7 AUX_CL, 8 VLOGIC, 9 AD0, 10 REGOUT, 11 FSYNC, 12 INT, 13 VDD, 14 NC, 15 NC, 16 NC, 17 NC, 18 GND, 19 RESV, 20 CPOUT, 21 RESV, 22 RESV, 23 SCL, 24 SDA

## NCP161ASN330T1G
designator U?  (value not drawn)
LDO Regulator, 450 mA, Ultra-High PSRR, Ultra-Low Noise 3.3V, SOT23-5L, Active Discharge; Manufacturer: ON Semiconductor; Voltage - Input (Max): 5.5V; Current - Output: 450mA; Supplier 1: Digi-Key; Manufacturer Part Number: NCP161ASN330T1G; RoHS: Yes; Category: Voltage Regulators - Linear; Stock 1: 4959; Pricing 1: 1=0,67000, 10=0,58900, 25=0,55320, 100=0,45160, 250=0,41948, 500=0,35700, 1000=0,28561 (USD); RoHS Compliant: Yes; ComponentLink1URL: http://www.farnell.com/datasheets/2815754.pdf?src-supplier=Farnell; ComponentLink1Description: http://www.farnell.com/datasheets/2815754.pdf?src-supplier=Farnell; Supplier Part Number 1: NCP161ASN330T1GOSCT-ND; Voltage - Output (Min/Fixed): 3.3V; Supplier Device Package: SOT-23-5
footprint SOT-23-5
pins: 1 IN, 2 GND, 3 EN, 4 NC, 5 OUT

## NEO-M8
designator U?, comment NEO-M8M-0  (value not drawn)
Rf Rcvr Gnss/gps 1.575GHZ 24LCC; Manufacturer: u-blox; Interface: I2C,SPI,USB,UART; Sensitivity: -167dBm; Current - Receiving: 21mA; Supplier 1: Digi-Key; Manufacturer Part Number: NEO-M8M-0; RoHS: Yes; Category: RF Receivers, Transceivers; Stock 1: 3000; Pricing 1: 1=27,00000, 10=19,61000, 50=16,10000, 100=12,89000 (USD); Case/Package: SMD/SMT; Min Operating Temperature: -40°C; Max Operating Temperature: 85°C; Packaging: Tape and Reel; Frequency: 1.575GHz; ComponentLink1URL: https://www.u-blox.com/sites/default/files/products/documents/NEO-M8-FW3_ProductSummary_%28UBX-16000345%29.pdf?src-supplier=Digi-Key; ComponentLink1Description: https://www.u-blox.com/sites/default/files/products/documents/NEO-M8-FW3_ProductSummary_%28UBX-16000345%29.pdf?src-supplier=Digi-Key; ComponentLink2URL: https://www.u-blox.com/sites/default/files/NEO-M8-FW3_DataSheet_%28UBX-15031086%29.pdf?src-supplier=Digi-Key; ComponentLink2Description: https://www.u-blox.com/sites/default/files/NEO-M8-FW3_DataSheet_%28UBX-15031086%29.pdf?src-supplier=Digi-Key; Supplier Part Number 1: 672-NEO-M8M-0CT-ND
footprint NEO-M8-GPS
pins: 1 SAFEBOOT_N, 2 D_SEL, 3 TIMEPULSE, 4 EXTINT, 5 USB_DM, 6 USB_DP, 7 VDD_USB, 8 RESET_N, 9 VCC_RF, 10 GND, 11 RF_IN, 12 GND, 13 GND, 14 LNA_EN/Reversed, 15 Reversed, 16 Reversed, 17 Reversed, 18 SDA, 19 SCL, 20 TXD, 21 RXD, 22 V_BCKP, 23 VCC, 24 GND

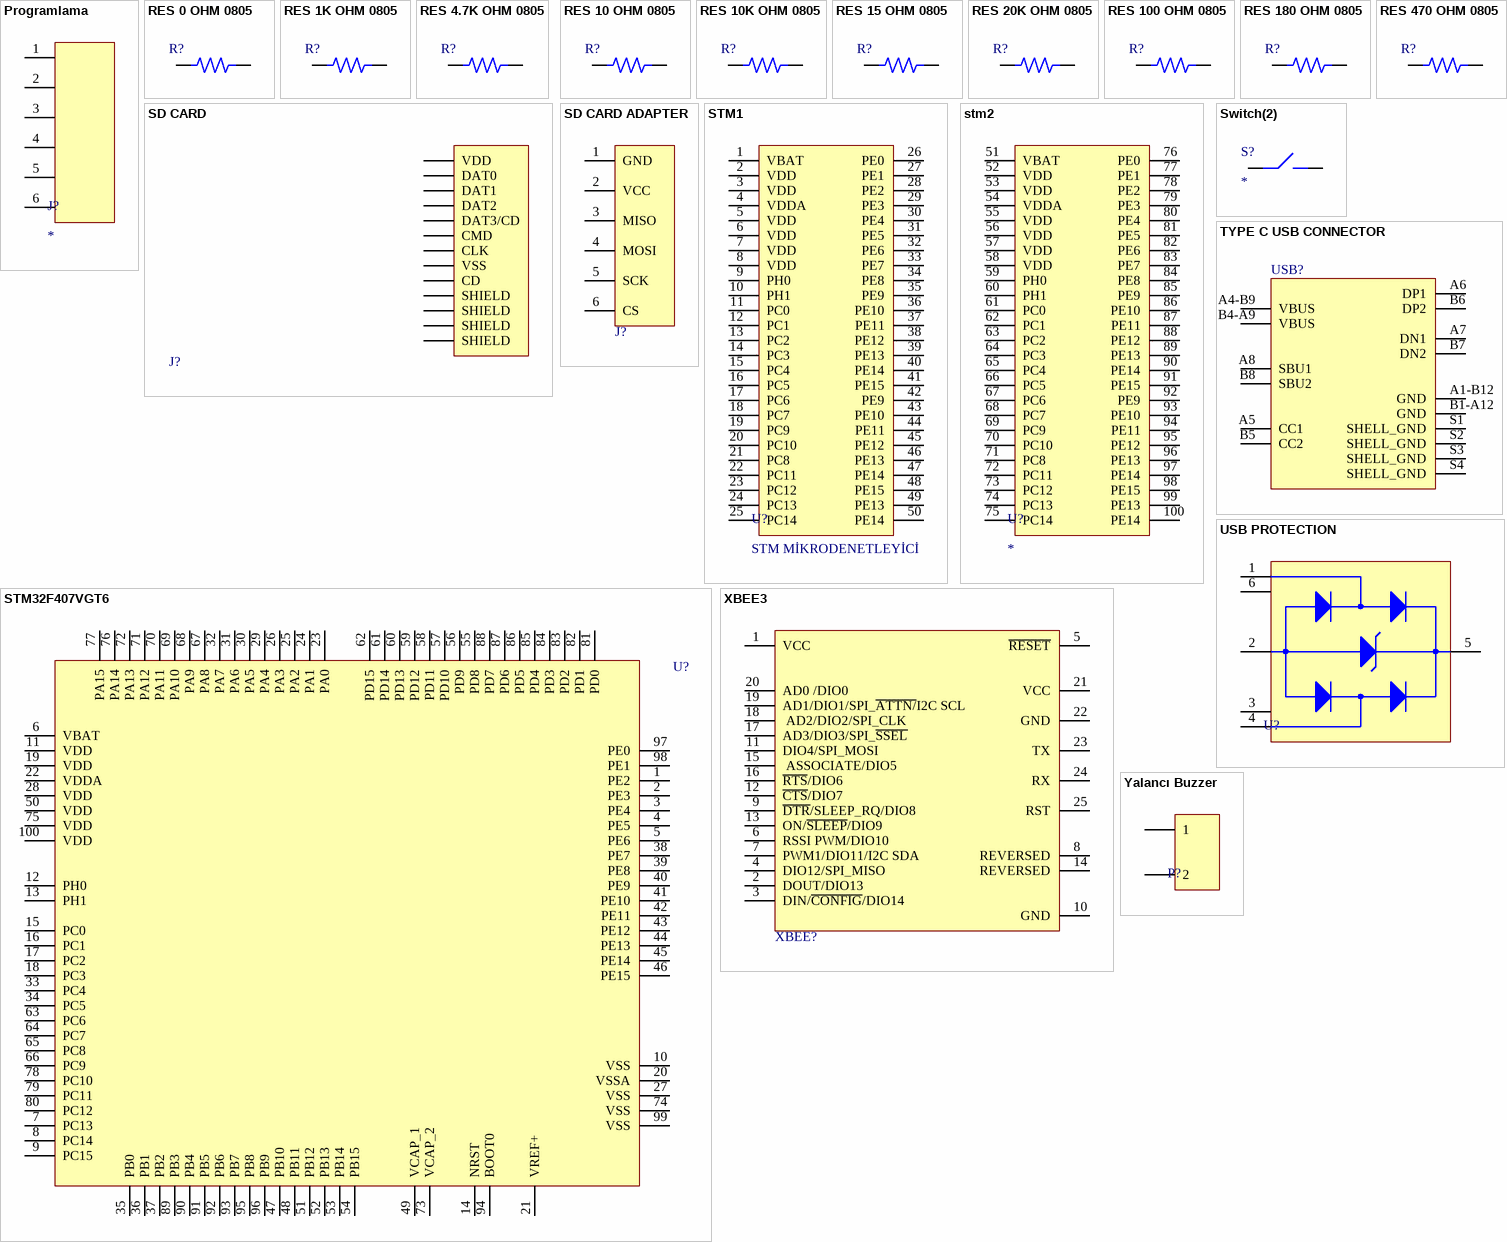
[diagram p1: symbols Programlama to Yalancı Buzzer]

## Programlama
designator J?
footprint PPTC061LFBN-RC
pins: 1, 2, 3, 4, 5, 6

## RES 0 OHM 0805
designator R?  (value not drawn)
footprint RES_0805
pins: 1, 2

## RES 1K OHM 0805
designator R?  (value not drawn)
footprint RES_0805
pins: 1, 2

## RES 4.7K OHM 0805
designator R?  (value not drawn)
footprint RES_0805
pins: 1, 2

## RES 10 OHM 0805
designator R?  (value not drawn)
footprint CAP_0805
pins: 1, 2

## RES 10K OHM 0805
designator R?  (value not drawn)
footprint RES_0805
pins: 1, 2

## RES 15 OHM 0805
designator R?  (value not drawn)
footprint RES_0805
pins: 1, 2

## RES 20K OHM 0805
designator R?  (value not drawn)
footprint RES_0805
pins: 1, 2

## RES 100 OHM 0805
designator R?  (value not drawn)
footprint RES_0805
pins: 1, 2

## RES 180 OHM 0805
designator R?  (value not drawn)
footprint RES_0805
pins: 1, 2

## RES 470 OHM 0805
designator R?  (value not drawn)
footprint RES_0805
pins: 1, 2

## SD CARD
designator J?, comment MEM2075-00-140-01-A  (value not drawn)
MEM2075 Series Normally Open SMT Push-Push MicroSD Memory Card Connector; Manufacturer: Global Connector Technology; Supplier 1: Farnell; Manufacturer Part Number: MEM2075-00-140-01-A; RoHS: No; Category: Connectors; Stock 1: 1317; Pricing 1: 1=1,64000, 25=1,55000, 75=1,48000, 200=1,34000, 500=1,24000 (EUR); ComponentLink1URL: https://gct.co/files/drawings/mem2075.pdf?src-supplier=Digi-Key; ComponentLink1Description: https://gct.co/files/drawings/mem2075.pdf?src-supplier=Digi-Key; Supplier Part Number 1: 2895610
footprint SD CARD
pins: P1 DAT2, P2 DAT3/CD, P3 CMD, P4 VDD, P5 CLK, P6 VSS, P7 DAT0, P8 DAT1, P9 CD, SH1 SHIELD, SH2 SHIELD, SH3 SHIELD, SH4 SHIELD

## SD CARD ADAPTER
designator J?, comment PPTC061LFBN-RC  (value not drawn)
Female, 6 C, Straight, .100"CC; 3.20mm Tail, No Mt. 100u" Tin; PBT, Phos Bronze, 105 C; Manufacturer: Sullins; Supplier 1: Digi-Key; Manufacturer Part Number: PPTC061LFBN-RC; RoHS: Yes; Category: Connectors; Stock 1: 54553; Pricing 1: 1=0,52000, 10=0,44900, 80=0,37050, 440=0,32220, 1000=0,26582, 5000=0,23360, 10000=0,23270 (USD); ComponentLink1URL: https://media.digikey.com/pdf/Data%20Sheets/Sullins%20PDFs/Female_Headers.100_DS.pdf?src-supplier=Digi-Key; ComponentLink1Description: https://media.digikey.com/pdf/Data%20Sheets/Sullins%20PDFs/Female_Headers.100_DS.pdf?src-supplier=Digi-Key; ComponentLink2URL: http://www.sullinscorp.com/catalogs/78_Page80-81_HEADER_.100_2.54mm_FEMALE.pdf?src-supplier=Future+Electronics; ComponentLink2Description: http://www.sullinscorp.com/catalogs/78_Page80-81_HEADER_.100_2.54mm_FEMALE.pdf?src-supplier=Future+Electronics; Supplier Part Number 1: S7004-ND
footprint PPTC061LFBN-RC
pins: 1 GND, 2 VCC, 3 MISO, 4 MOSI, 5 SCK, 6 CS

## STM1
designator U?, comment STM MİKRODENETLEYİCİ
footprint STM
pins: 1 VBAT, 2 VDD, 3 VDD, 4 VDDA, 5 VDD, 6 VDD, 7 VDD, 8 VDD, 9 PH0, 10 PH1, 11 PC0, 12 PC1, 13 PC2, 14 PC3, 15 PC4, 16 PC5, 17 PC6, 18 PC7, 19 PC9, 20 PC10, 21 PC8, 22 PC11, 23 PC12, 24 PC13, 25 PC14, 26 PE0, 27 PE1, 28 PE2, 29 PE3, 30 PE4, 31 PE5, 32 PE6, 33 PE7, 34 PE8, 35 PE9, 36 PE10, 37 PE11, 38 PE12, 39 PE13, 40 PE14, 41 PE15, 42 PE9, 43 PE10, 44 PE11, 45 PE12, 46 PE13, 47 PE14, 48 PE15, 49 PE13, 50 PE14

## stm2
designator U?
footprint STM2
pins: 51 VBAT, 52 VDD, 53 VDD, 54 VDDA, 55 VDD, 56 VDD, 57 VDD, 58 VDD, 59 PH0, 60 PH1, 61 PC0, 62 PC1, 63 PC2, 64 PC3, 65 PC4, 66 PC5, 67 PC6, 68 PC7, 69 PC9, 70 PC10, 71 PC8, 72 PC11, 73 PC12, 74 PC13, 75 PC14, 76 PE0, 77 PE1, 78 PE2, 79 PE3, 80 PE4, 81 PE5, 82 PE6, 83 PE7, 84 PE8, 85 PE9, 86 PE10, 87 PE11, 88 PE12, 89 PE13, 90 PE14, 91 PE15, 92 PE9, 93 PE10, 94 PE11, 95 PE12, 96 PE13, 97 PE14, 98 PE15, 99 PE13, 100 PE14

## STM32F407VGT6
designator U?  (value not drawn)
IC MCU 32BIT 1MB FLASH 100LQFP; Manufacturer: STMicroelectronics; Core Architecture: ARM; Interface: I2C,SPI,USB,CAN,Ethernet,IrDA,UART,USART,LIN,EBI/EMI,I2S; Data Bus Width: 32b; Max Supply Voltage: 3.6V; Min Supply Voltage: 1.8V; Number of I/Os: 82; Frequency: 168MHz; RAM Size: 196KB; Oscillator Type: Internal; Memory Size: 1024KB; Peripherals: Brown-out Detect/Reset,POR,PWM,WDT,DMA,LCD,I2C; Number of Timers/Counters: 14; Watchdog Timer: Yes; Number of ADC Channels: 16; Number of PWM Channels: 2; Number of SPI Channels: 3; Number of Ethernet Channels: 1; Supplier 1: Digi-Key; Manufacturer Part Number: STM32F407VGT6; RoHS: Yes; Category: Microcontrollers; Pricing 1: 1=16,52000, 10=15,18400, 25=14,55440, 90=12,82367, 270=12,19433, 450=11,40760 (USD); Case/Package: LQFP; Number of Pins: 100; Min Operating Temperature: -40°C; Max Operating Temperature: 85°C; Series: STM32 F4; Package Quantity: 90; Packaging: Tray; Max Frequency: 168MHz; Memory Type: FLASH; Number of Programmable I/O: 82; Number of I2C Channels: 3; Number of UART Channels: 2; Address Bus Width: 32b; Length: 14.2mm; Width: 14.2mm; Height: 1.45mm; Radiation Hardening: No; Reach SVHC Compliant: Yes; Lead Free: Lead Free; RoHS Compliant: Yes; ComponentLink1URL: https://datasheet.ciiva.com/14132/stm32f407vgt6-tds-eng-14132567.pdf?src-supplier=Distrelec; ComponentLink1Description: https://datasheet.ciiva.com/14132/stm32f407vgt6-tds-eng-14132567.pdf?src-supplier=Distrelec; ComponentLink2URL: https://datasheet.ciiva.com/4842/dm00037051-492832-4842280.pdf?src-supplier=Mouser; ComponentLink2Description: https://datasheet.ciiva.com/4842/dm00037051-492832-4842280.pdf?src-supplier=Mouser; ComponentLink3URL: https://datasheet.ciiva.com/48687/001075599-da-01-en-mcu-32bt-1mb-stm32f407vgt6-lqfp-100-stm-48687547.pdf?src-supplier=Conrad; ComponentLink3Description: https://datasheet.ciiva.com/48687/001075599-da-01-en-mcu-32bt-1mb-stm32f407vgt6-lqfp-100-stm-48687547.pdf?src-supplier=Conrad; Supplier Part Number 1: 497-11605-ND
footprint LQFP-100
pins: 1 PE2, 2 PE3, 3 PE4, 4 PE5, 5 PE6, 6 VBAT, 7 PC13, 8 PC14, 9 PC15, 10 VSS, 11 VDD, 12 PH0, 13 PH1, 14 NRST, 15 PC0, 16 PC1, 17 PC2, 18 PC3, 19 VDD, 20 VSSA, 21 VREF+, 22 VDDA, 23 PA0, 24 PA1, 25 PA2, 26 PA3, 27 VSS, 28 VDD, 29 PA4, 30 PA5, 31 PA6, 32 PA7, 33 PC4, 34 PC5, 35 PB0, 36 PB1, 37 PB2, 38 PE7, 39 PE8, 40 PE9, 41 PE10, 42 PE11, 43 PE12, 44 PE13, 45 PE14, 46 PE15, 47 PB10, 48 PB11, 49 VCAP_1, 50 VDD, 51 PB12, 52 PB13, 53 PB14, 54 PB15, 55 PD8, 56 PD9, 57 PD10, 58 PD11, 59 PD12, 60 PD13, 61 PD14, 62 PD15, 63 PC6, 64 PC7, 65 PC8, 66 PC9, 67 PA8, 68 PA9, 69 PA10, 70 PA11, 71 PA12, 72 PA13, 73 VCAP_2, 74 VSS, 75 VDD, 76 PA14, 77 PA15, 78 PC10, 79 PC11, 80 PC12, 81 PD0, 82 PD1, 83 PD2, 84 PD3, 85 PD4, 86 PD5, 87 PD6, 88 PD7, 89 PB3, 90 PB4, 91 PB5, 92 PB6, 93 PB7, 94 BOOT0, 95 PB8, 96 PB9, 97 PE0, 98 PE1, 99 VSS, 100 VDD

## Switch(2)
designator S?
footprint Switch(2)
pins: 1, 2

## TYPE C USB CONNECTOR
designator USB?, comment USB4125-GF-A  (value not drawn)
USB Connector with 1.90mm shell stake length; Manufacturer: Global Connector Technology; Manufacturer Part Number: USB4125-GF-A-0190; Supplier 1: Farnell; RoHS: No; Category: USB Connectors; Stock 1: 2000; Pricing 1: 1000=0,40500, 5000=0,39700, 10000=0,38900, 20000=0,38100 (EUR); Supplier Part Number 1: 3777666
footprint USB4125-GF-A / Type C USB
pins: A1-B12 GND, A4-B9 VBUS, A5 CC1, A6 DP1, A7 DN1, A8 SBU1, B1-A12 GND, B4-A9 VBUS, B5 CC2, B6 DP2, B7 DN2, B8 SBU2, S1 SHELL_GND, S2 SHELL_GND, S3 SHELL_GND, S4 SHELL_GND

## USB PROTECTION
designator U?, comment USBLC6-2SC6  (value not drawn)
TVS DIODE 5.25VWM 17VC SOT23-6; Manufacturer: STMicroelectronics; Direction: Unidirectional,Bidirectional; Capacitance: 3.5pF; Operating Supply Voltage: 1.1V; Number of Channels: 2; Breakdown Voltage: 6V; Clamping Voltage: 17V; Reverse Standoff Voltage: 5.25V; Power Line Protection: Yes; Test Current: 1mA; Max Reverse Leakage Current: 150nA; Peak Pulse Current: 5A; Element Configuration: Dual; Data Rate: 480Mbps; Number of Elements: 1; Working Voltage: 5V; Supplier 1: Digi-Key; Manufacturer Part Number: USBLC6-2SC6; RoHS: Yes; Category: TVS Diodes; Stock 1: 127716; Pricing 1: 1=0,61000, 10=0,52200, 100=0,38970, 500=0,30620, 1000=0,23660 (USD); Mount: Surface Mount; Case/Package: SOT-23; Number of Pins: 6; Contact Plating: Tin,Matte; Min Operating Temperature: -40°C; Max Operating Temperature: 125°C; Packaging: Tape and Reel; Package Quantity: 3000; Termination: SMD/SMT; Number of Bidirectional Channels: 2; Min Breakdown Voltage: 6V; ESD Protection: Yes; Leakage Current: 150nA; Series: USB; Reverse Breakdown Voltage: 6V; Polarity: Unidirectional,Bidirectional; Max Breakdown Voltage: 6V; Clamping Voltage-Max: 17V; Length: 3.05mm; Width: 1.75mm; Height: 1.3mm; Depth: 1.75mm; Radiation Hardening: No; Reach SVHC Compliant: Yes; Lead Free: Lead Free; RoHS Compliant: Yes; ComponentLink1URL: https://datasheet.ciiva.com/1268/1690354-1268384.pdf?src-supplier=Element14; ComponentLink1Description: https://datasheet.ciiva.com/1268/1690354-1268384.pdf?src-supplier=Element14; ComponentLink2URL: https://datasheet.ciiva.com/4508/cd00050750-113117-4508433.pdf?src-supplier=Mouser; ComponentLink2Description: https://datasheet.ciiva.com/4508/cd00050750-113117-4508433.pdf?src-supplier=Mouser; ComponentLink3URL: https://datasheet.ciiva.com/15143/getdatasheetpartid-148465-15143789.pdf?src-supplier=Verical; ComponentLink3Description: https://datasheet.ciiva.com/15143/getdatasheetpartid-148465-15143789.pdf?src-supplier=Verical; ComponentLink4URL: https://datasheet.ciiva.com/16200/cd00050750-16200026.pdf?src-supplier=Future+Electronics; ComponentLink4Description: https://datasheet.ciiva.com/16200/cd00050750-16200026.pdf?src-supplier=Future+Electronics; ComponentLink5URL: https://datasheet.ciiva.com/41444/001184109-da-01-en-ic-esd-protecti-usblc6-2sc6-sot-23-6-stm-41444156.pdf?src-supplier=Conrad; ComponentLink5Description: https://datasheet.ciiva.com/41444/001184109-da-01-en-ic-esd-protecti-usblc6-2sc6-sot-23-6-stm-41444156.pdf?src-supplier=Conrad; Supplier Part Number 1: 497-5235-1-ND
footprint SOT-23-6L
pins: 1 I/O1_IN, 2 GND (power), 3 I/O2_IN, 4 I/O2_OUT, 5 VBUS (power), 6 I/O1_OUT

## XBEE3
designator XBEE?, comment XB3-24Z8ST-J  (value not drawn)
Zigbee Module, 2.4 Ghz, Sma Ant, Th Mt Rohs Compliant: Yes; Manufacturer: Digi International; Interface: I2C,SPI,UART; Frequency: 2.4GHz; Data Rate: 250Kbps; Sensitivity: -103dBm; Memory Size: 128KB; Current - Receiving: 15mA; Current - Transmitting: 40mA; Supplier 1: Digi-Key; Manufacturer Part Number: XB3-24Z8ST-J; RoHS: Yes; Category: RF Receivers, Transceivers; Pricing 1: 1=26,38000 (USD); Mount: Through Hole; Case/Package: Module; Min Operating Temperature: -40°C; Max Operating Temperature: 85°C; Packaging: Tray; ComponentLink1URL: https://www.digi.com/pdf/ds_xbee-3-zigbee-3.pdf?src-supplier=Digi-Key; ComponentLink1Description: https://www.digi.com/pdf/ds_xbee-3-zigbee-3.pdf?src-supplier=Digi-Key; Supplier Part Number 1: 602-2186-ND
footprint XBEE3
pins: 1 VCC, 2 DOUT/DIO13, 3 DIN/~{CONFIG}/DIO14, 4 DIO12/SPI_MISO , 5 ~{RESET}, 6 RSSI PWM/DIO10 , 7 PWM1/DIO11/I2C SDA , 8 REVERSED, 9 ~{DTR}/SLEEP_RQ/DIO8, 10 GND, 11 DIO4/SPI_MOSI , 12 ~{CTS}/DIO7 , 13 ON/~{SLEEP}/DIO9, 14 REVERSED, 15  ASSOCIATE/DIO5 , 16 ~{RTS}/DIO6 , 17 AD3/DIO3/SPI_~{SSEL} , 18  AD2/DIO2/SPI_CLK, 19 AD1/DIO1/SPI_~{ATTN/}I2C SCL, 20 AD0 /DIO0 , 21 VCC, 22 GND, 23 TX, 24 RX, 25 RST

## Yalancı Buzzer
designator P?  (value not drawn)
footprint Yalancı Buzzer
pins: 1, 2